# Altium schematic symbol library LM25101.SchLib: 1 symbol
Pins are listed as number, name and electrical type; pins without a type are passive.

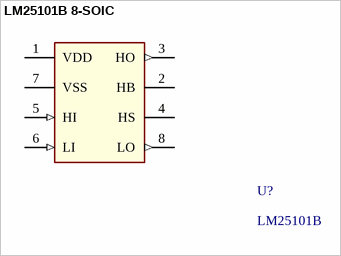
[diagram p0: symbol LM25101B 8-SOIC]

## LM25101B 8-SOIC
designator U?, comment LM25101B
Half-Bridge Gate Driver IC Non-Inverting 8-SOIC; Manufacturer 1: Texas Instruments; Manufacturer 1 PN: LM25101BMA/NOPB; ComponentLink1Description: Datasheet; ComponentLink1URL: http://www.ti.com/lit/ds/symlink/lm25101.pdf; Digikey PN: 296-45005-5-ND; Mouser PN: 595-LM25101BMA/NOPB
footprint LM25101 8-SOIC (Half-Bridge Gate Driver IC Non-Inverting 8-SOIC)
pins: 1 VDD (power) "Positive gate drive supply", 2 HB (power) "High-side gate driver bootstrap rail", 3 HO (out) "High-side gate driver output", 4 HS (power) "High-side MOSFET source connection", 5 HI (in) "High-side driver control input", 6 LI (in) "Low-side driver control input", 7 VSS (power) "Ground return", 8 LO (out) "Low-side gate driver output"